# Altium schematic symbol library power.SchLib: 4 symbols
Pins are listed as number, name and electrical type; pins without a type are passive.

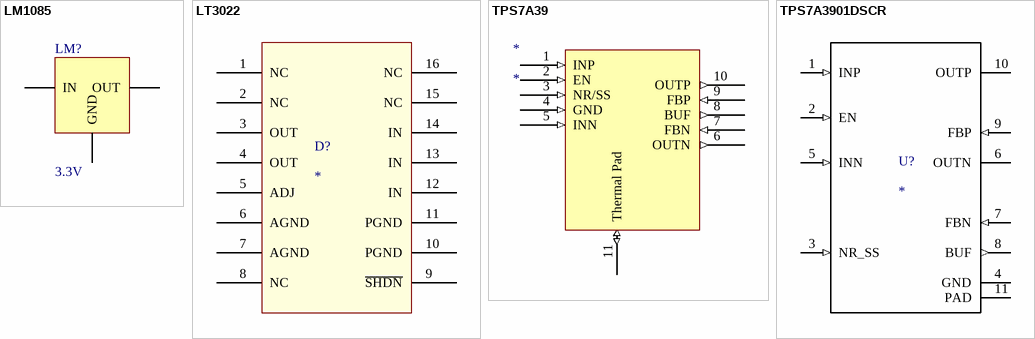
[diagram p0: symbols LM1085 to TPS7A3901DSCR]

## LM1085
designator LM?, comment 3.3V
LM1085ISX-3.3/NOPB; Manufacturer: TI National Semiconductor; Number of Outputs: 1; Min Input Voltage: 2.6V; Max Input Voltage: 27V; Max Output Current: 3A; Polarity: Positive; Quiescent Current: 10mA; Dropout Voltage: 1.3V; Min Current Limit: 3.2A; Supplier 1: Digi-Key; Manufacturer Part Number: LM1085ISX-3.3/NOPB; Stock 1: 6242; Pricing 1: 1=2.03, 10=1.826, 100=1.4677 (USD); Mount: Surface Mount; Case/Package: TO-263; Number of Pins: 3; Contact Plating: Tin,Matte; Min Operating Temperature: -40°C; Max Operating Temperature: 125°C; Output Voltage: 3.3V; Nominal Output Voltage: 3.3V; Output Current: 3A; Packaging: Tape and Reel; Package Quantity: 500; Number of Regulators: 1; Length: 10.16mm; Height: 4.57mm; Width: 8.64mm; Radiation Hardening: No; REACH SVHC: No SVHC; Lead Free: Contains Lead; ComponentLink1URL: https://datasheet.ciiva.com/15111/getdatasheetpartid-55637-15111252.pdf; ComponentLink1Description: https://datasheet.ciiva.com/15111/getdatasheetpartid-55637-15111252.pdf; ComponentLink2URL: https://datasheet.ciiva.com/26167/lm1085-26167653.pdf; ComponentLink2Description: https://datasheet.ciiva.com/26167/lm1085-26167653.pdf; ComponentLink3URL: https://datasheet.ciiva.com/3223/lm1085-3223480.pdf; ComponentLink3Description: https://datasheet.ciiva.com/3223/lm1085-3223480.pdf; ComponentLink4URL: https://datasheet.ciiva.com/6582/lm1085-6582715.pdf; ComponentLink4Description: https://datasheet.ciiva.com/6582/lm1085-6582715.pdf; ComponentLink5URL: https://datasheet.ciiva.com/34302/1278979-34302139.pdf; ComponentLink5Description: https://datasheet.ciiva.com/34302/1278979-34302139.pdf; ComponentLink6URL: https://datasheet.ciiva.com/6582/lm1085-6582716.pdf; ComponentLink6Description: https://datasheet.ciiva.com/6582/lm1085-6582716.pdf; ComponentLink7URL: https://datasheet.ciiva.com/6582/lm1085-6582718.pdf; ComponentLink7Description: https://datasheet.ciiva.com/6582/lm1085-6582718.pdf; ComponentLink8URL: https://datasheet.ciiva.com/41457/001013599-da-01-en-ic-reg-l-lm1085isx-3-3-nopb-to-263-3-tid-41457356.pdf; ComponentLink8Description: https://datasheet.ciiva.com/41457/001013599-da-01-en-ic-reg-l-lm1085isx-3-3-nopb-to-263-3-tid-41457356.pdf; Supplier Part Number 1: LM1085ISX-3.3/NOPBCT-ND
footprint LM1085 (D2-PAK; 3 Leads; Body 14.4 (inc. leads) x 10.4 mm (LxW max))
pins: 1 GND, 2 OUT, 3 IN

## LT3022
designator D?
LT3022EDHC#PBF; Manufacturer: Analog Devices / Linear Technology; Output Voltage: 9.5V; Max Output Current: 1A; Dropout Voltage: 145mV; Number of Outputs: 1; Max Input Voltage: 10V; Min Input Voltage: 900mV; Min Current Limit: 1.1A; Quiescent Current: 400uA; Reference Voltage: 200mV; Polarity: Positive; Power Supply Rejection Ratio (PSRR): 70dB; Supplier 1: Digi-Key; Manufacturer Part Number: LT3022EDHC#PBF; Stock 1: 286; Pricing 1: 1=5.95, 25=3.978, 100=3.3864 (USD); Case/Package: DFN; Number of Pins: 16; Min Operating Temperature: -40°C; Max Operating Temperature: 125°C; Output Current: 1A; Package Quantity: 73; Packaging: Rail/Tube; Number of Regulators: 1; Min Output Voltage: 200mV; Max Output Voltage: 9.5V; Operating Supply Current: 400uA; Length: 5mm; Height: 0.7mm; Width: 3mm; REACH SVHC: No SVHC; ComponentLink1URL: https://datasheet.ciiva.com/30477/0900766b81222c57-30477124.pdf; ComponentLink1Description: https://datasheet.ciiva.com/30477/0900766b81222c57-30477124.pdf; ComponentLink2URL: https://datasheet.ciiva.com/5698/3022fb-5698406.pdf; ComponentLink2Description: https://datasheet.ciiva.com/5698/3022fb-5698406.pdf; ComponentLink3URL: https://datasheet.ciiva.com/8041/1679618-8041869.pdf; ComponentLink3Description: https://datasheet.ciiva.com/8041/1679618-8041869.pdf; ComponentLink4URL: https://datasheet.ciiva.com/2041/29322-2041663.pdf; ComponentLink4Description: https://datasheet.ciiva.com/2041/29322-2041663.pdf; ComponentLink5URL: https://datasheet.ciiva.com/26909/lt3022edhc-pbf-26909424.pdf; ComponentLink5Description: https://datasheet.ciiva.com/26909/lt3022edhc-pbf-26909424.pdf; Supplier Part Number 1: LT3022EDHC#PBF-ND
footprint LT3022
pins: 1 NC, 2 NC, 3 OUT, 4 OUT, 5 ADJ, 6 AGND, 7 AGND, 8 NC, 9 ~{SHDN}, 10 PGND, 11 PGND, 12 IN, 13 IN, 14 IN, 15 NC, 16 NC

## TPS7A39
designator *
footprint SON80P400X400X80-10N
pins: 1 INP (in) "Positive Input", 2 EN (in) "Enable Signal", 3 NR/SS (in) "Noise-reduction, soft-start pin", 4 GND (in), 5 INN (in) "Negative Input", 6 OUTN (out), 7 FBN (in) "Feedback Negative", 8 BUF (out) "Buffered Refference Output", 9 FBP (in) "Positive Output Feedback Pin", 10 OUTP (out) "Output Positive", 11 Thermal Pad (io) "Connect to GND"

## TPS7A3901DSCR
designator U?
Imported; PartNumber: TPS7A3901DSCR; Manufacturer: Texas Instruments; RefDes: RefDes; Type: DEV; Value: Value
footprint DSC0010J
pins: 1 INP (in), 2 EN (in), 3 NR_SS (in), 4 GND (power), 5 INN (in), 6 OUTN (power), 7 FBN (in), 8 BUF (out), 9 FBP (in), 10 OUTP (power), 11 PAD (power)